# Altium schematic symbol library MountingHoles.SchLib: 8 symbols
Pins are listed as number, name and electrical type; pins without a type are passive.

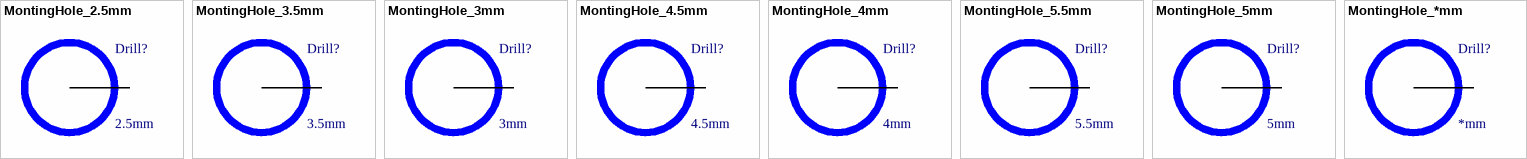
[diagram p0: symbols MontingHole_2.5mm to MontingHole_*mm]

## MontingHole_2.5mm
designator Drill?, comment 2.5mm  (no BOM)
DrillSize: 2.5mm
footprint MountingHole2.5mm
pins: 1

## MontingHole_3.5mm
designator Drill?, comment 3.5mm  (no BOM)
DrillSize: 3.5mm
footprint MontingHole3.5mm
pins: 1

## MontingHole_3mm
designator Drill?, comment 3mm  (no BOM)
DrillSize: 3mm
footprint MountingHole3mm
pins: 1

## MontingHole_4.5mm
designator Drill?, comment 4.5mm  (no BOM)
DrillSize: 4.5mm
footprint MountingHole4.5mm
pins: 1

## MontingHole_4mm
designator Drill?, comment 4mm  (no BOM)
DrillSize: 4mm
footprint MontingHole4mm
pins: 1

## MontingHole_5.5mm
designator Drill?, comment 5.5mm  (no BOM)
DrillSize: 5.5mm
footprint MontingHole5.5mm
pins: 1

## MontingHole_5mm
designator Drill?, comment 5mm  (no BOM)
DrillSize: 5mm
footprint MontingHole5mm
pins: 1

## MontingHole_*mm
designator Drill?, comment *mm  (no BOM)
DrillSize: *mm
pins: 1